# Altium footprint library PCB_XEM-S91.PcbLib: 7 footprints (part 2 of 3)
Each footprint in its own frame and in the unit in brackets; x right, y up, seen from the top. Pads: shape width x height; smd on the part's side, far side on the other; paste and mask are expansions set on the pad; w line width, h text height; cw(c..) or ccw(c..) is an arc to the next point about the centre after c.
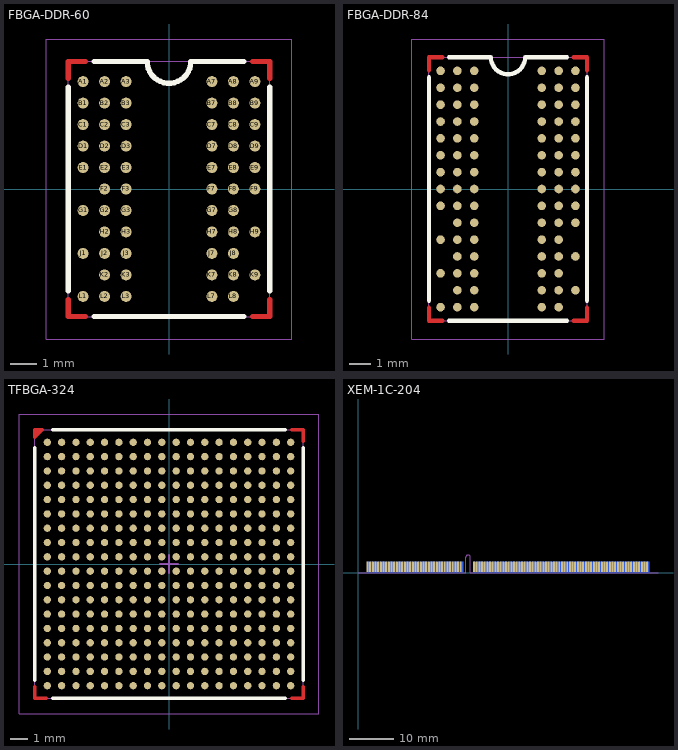
[diagram p1: the footprints below, top view; thin cyan lines are the x and y axes]

## FBGA-DDR-60 [mil]
pads (60):
  round 16 smd paste+0 mask+2: A1(-125.98,157.48) A2(-94.49,157.48) A3(-62.99,157.48) A7(62.99,157.48) A8(94.49,157.48) A9(125.98,157.48) B1(-125.98,125.98) B2(-94.49,125.98) B3(-62.99,125.98) B7(62.99,125.98) B8(94.49,125.98) B9(125.98,125.98) C1(-125.98,94.49) C2(-94.49,94.49) C3(-62.99,94.49) C7(62.99,94.49) C8(94.49,94.49) C9(125.98,94.49) D1(-125.98,62.99) D2(-94.49,62.99) D3(-62.99,62.99) D7(62.99,62.99) D8(94.49,62.99) D9(125.98,62.99) E1(-125.98,31.5) E2(-94.49,31.5) E3(-62.99,31.5) E7(62.99,31.5) E8(94.49,31.5) E9(125.98,31.5) F2(-94.49,0) F3(-62.99,0) F7(62.99,0) F8(94.49,0) F9(125.98,0) G1(-125.98,-31.5) G2(-94.49,-31.5) G3(-62.99,-31.5) G7(62.99,-31.5) G8(94.49,-31.5) H2(-94.49,-62.99) H3(-62.99,-62.99) H7(62.99,-62.99) H8(94.49,-62.99) H9(125.98,-62.99) J1(-125.98,-94.49) J2(-94.49,-94.49) J3(-62.99,-94.49) J7(62.99,-94.49) J8(94.49,-94.49) K2(-94.49,-125.98) K3(-62.99,-125.98) K7(62.99,-125.98) K8(94.49,-125.98) K9(125.98,-125.98) L1(-125.98,-157.48) L2(-94.49,-157.48) L3(-62.99,-157.48) L7(62.99,-157.48) L8(94.49,-157.48)
Top Layer:
  lines w8: -147.64,-162.36 -147.64,-187.01 -122.99,-187.01 ; -147.64,162.36 -147.64,187.01 -122.99,187.01 ; 122.99,-187.01 147.64,-187.01 147.64,-162.36 ; 122.99,187.01 147.64,187.01 147.64,162.36
Top Overlay:
  lines w8: -147.64,-149.37 -147.64,149.37 ; -110,-187.01 110,-187.01 ; -110,187.01 -32,187.01 ccw(c0,187.01) 32,187.01 110,187.01 ; 147.64,-149.37 147.64,149.37
Top Solder:
  lines w10: -147.64,-162.36 -147.64,-187.01 -122.99,-187.01 ; -147.64,162.36 -147.64,187.01 -122.99,187.01 ; 122.99,-187.01 147.64,-187.01 147.64,-162.36 ; 122.99,187.01 147.64,187.01 147.64,162.36
Mechanical 15:
  lines w1: -180,-220 180,-220 180,220 -180,220 -180,-220
Mechanical 16:
  lines w1: -147.64,-187.01 147.64,-187.01 147.64,187.01 -147.64,187.01 -147.64,-187.01
3D body: height 11.5, standoff -4.5, extent -133.92,149.56 -117.98,165.48
3D body: height 11.5, standoff -4.5, extent -102.42,149.56 -86.49,165.48
3D body: height 11.5, standoff -4.5, extent -70.92,149.56 -54.99,165.48
3D body: height 11.5, standoff -4.5, extent 55.06,149.56 70.99,165.48
3D body: height 11.5, standoff -4.5, extent 86.56,149.56 102.49,165.48
3D body: height 11.5, standoff -4.5, extent 118.05,149.56 133.98,165.48
3D body: height 11.5, standoff -4.5, extent 118.05,118.07 133.98,133.98
3D body: height 11.5, standoff -4.5, extent 86.56,118.07 102.49,133.98
3D body: height 11.5, standoff -4.5, extent 55.06,118.07 70.99,133.98
3D body: height 11.5, standoff -4.5, extent -70.92,118.07 -54.99,133.98
3D body: height 11.5, standoff -4.5, extent -102.42,118.07 -86.49,133.98
3D body: height 11.5, standoff -4.5, extent -133.92,118.07 -117.98,133.98
3D body: height 11.5, standoff -4.5, extent 118.05,86.57 133.98,102.49
3D body: height 11.5, standoff -4.5, extent 86.56,86.57 102.49,102.49
3D body: height 11.5, standoff -4.5, extent 55.06,86.57 70.99,102.49
3D body: height 11.5, standoff -4.5, extent -70.92,86.57 -54.99,102.49
3D body: height 11.5, standoff -4.5, extent -102.42,86.57 -86.49,102.49
3D body: height 11.5, standoff -4.5, extent -133.92,86.57 -117.98,102.49
3D body: height 11.5, standoff -4.5, extent 118.05,55.08 133.98,70.99
3D body: height 11.5, standoff -4.5, extent 86.56,55.08 102.49,70.99
3D body: height 11.5, standoff -4.5, extent 55.06,55.08 70.99,70.99
3D body: height 11.5, standoff -4.5, extent -70.92,55.08 -54.99,70.99
3D body: height 11.5, standoff -4.5, extent -102.42,55.08 -86.49,70.99
3D body: height 11.5, standoff -4.5, extent -133.92,55.08 -117.98,70.99
3D body: height 11.5, standoff -4.5, extent 118.05,23.58 133.98,39.5
3D body: height 11.5, standoff -4.5, extent 86.56,23.58 102.49,39.5
3D body: height 11.5, standoff -4.5, extent 55.06,23.58 70.99,39.5
3D body: height 11.5, standoff -4.5, extent -70.92,23.58 -54.99,39.5
3D body: height 11.5, standoff -4.5, extent -102.42,23.58 -86.49,39.5
3D body: height 11.5, standoff -4.5, extent -133.92,23.58 -117.98,39.5
3D body: height 11.5, standoff -4.5, extent 118.05,-7.92 133.98,8
3D body: height 11.5, standoff -4.5, extent 86.56,-7.92 102.49,8
3D body: height 11.5, standoff -4.5, extent 55.06,-7.92 70.99,8
3D body: height 11.5, standoff -4.5, extent -70.92,-7.92 -54.99,8
3D body: height 11.5, standoff -4.5, extent -102.42,-7.92 -86.49,8
3D body: height 11.5, standoff -4.5, extent 86.56,-39.41 102.49,-23.5
3D body: height 11.5, standoff -4.5, extent 55.06,-39.41 70.99,-23.5
3D body: height 11.5, standoff -4.5, extent -70.92,-39.41 -54.99,-23.5
3D body: height 11.5, standoff -4.5, extent -102.42,-39.41 -86.49,-23.5
3D body: height 11.5, standoff -4.5, extent -133.92,-39.41 -117.98,-23.5
3D body: height 11.5, standoff -4.5, extent 118.05,-70.91 133.98,-54.99
3D body: height 11.5, standoff -4.5, extent 86.56,-70.91 102.49,-54.99
3D body: height 11.5, standoff -4.5, extent 55.06,-70.91 70.99,-54.99
3D body: height 11.5, standoff -4.5, extent -70.92,-70.91 -54.99,-54.99
3D body: height 11.5, standoff -4.5, extent -102.42,-70.91 -86.49,-54.99
3D body: height 11.5, standoff -4.5, extent 86.56,-102.4 102.49,-86.49
3D body: height 11.5, standoff -4.5, extent 55.06,-102.4 70.99,-86.49
3D body: height 11.5, standoff -4.5, extent -70.92,-102.4 -54.99,-86.49
3D body: height 11.5, standoff -4.5, extent -102.42,-102.4 -86.49,-86.49
3D body: height 11.5, standoff -4.5, extent -133.92,-102.4 -117.98,-86.49
3D body: height 11.5, standoff -4.5, extent 86.56,-133.9 102.49,-117.98
3D body: height 11.5, standoff -4.5, extent 55.06,-133.9 70.99,-117.98
3D body: height 11.5, standoff -4.5, extent -70.92,-133.9 -54.99,-117.98
3D body: height 11.5, standoff -4.5, extent -102.42,-133.9 -86.49,-117.98
3D body: height 11.5, standoff -4.5, extent 86.56,-165.4 102.49,-149.48
3D body: height 11.5, standoff -4.5, extent 55.06,-165.4 70.99,-149.48
3D body: height 11.5, standoff -4.5, extent -70.92,-165.4 -54.99,-149.48
3D body: height 11.5, standoff -4.5, extent -102.42,-165.4 -86.49,-149.48
3D body: height 11.5, standoff -4.5, extent -133.92,-165.4 -117.98,-149.48
3D body: height 11.5, standoff -4.5, extent 118.05,-133.9 133.98,-117.98
3D body: height 39.37, standoff 7.87, extent -147.64,-187.01 147.64,187.01

## FBGA-DDR-84 [mil]
pads (84):
  round 16 smd paste+0 mask+2: A1(-125.98,220.47) A2(-94.49,220.47) A3(-62.99,220.47) A7(62.99,220.47) A8(94.49,220.47) A9(125.98,220.47) B1(-125.98,188.98) B2(-94.49,188.98) B3(-62.99,188.98) B7(62.99,188.98) B8(94.49,188.98) B9(125.98,188.98) C1(-125.98,157.48) C2(-94.49,157.48) C3(-62.99,157.48) C7(62.99,157.48) C8(94.49,157.48) C9(125.98,157.48) D1(-125.98,125.98) D2(-94.49,125.98) D3(-62.99,125.98) D7(62.99,125.98) D8(94.49,125.98) D9(125.98,125.98) E1(-125.98,94.49) E2(-94.49,94.49) E3(-62.99,94.49) E7(62.99,94.49) E8(94.49,94.49) E9(125.98,94.49) F1(-125.98,62.99) F2(-94.49,62.99) F3(-62.99,62.99) F7(62.99,62.99) F8(94.49,62.99) F9(125.98,62.99) G1(-125.98,31.5) G2(-94.49,31.5) G3(-62.99,31.5) G7(62.99,31.5) G8(94.49,31.5) G9(125.98,31.5) H1(-125.98,0) H2(-94.49,0) H3(-62.99,0) H7(62.99,0) H8(94.49,0) H9(125.98,0) J1(-125.98,-31.5) J2(-94.49,-31.5) J3(-62.99,-31.5) J7(62.99,-31.5) J8(94.49,-31.5) J9(125.98,-31.5) K2(-94.49,-62.99) K3(-62.99,-62.99) K7(62.99,-62.99) K8(94.49,-62.99) K9(125.98,-62.99) L1(-125.98,-94.49) L2(-94.49,-94.49) L3(-62.99,-94.49) L7(62.99,-94.49) L8(94.49,-94.49) M2(-94.49,-125.98) M3(-62.99,-125.98) M7(62.99,-125.98) M8(94.49,-125.98) M9(125.98,-125.98) N1(-125.98,-157.48) N2(-94.49,-157.48) N3(-62.99,-157.48) N7(62.99,-157.48) N8(94.49,-157.48) P2(-94.49,-188.98) P3(-62.99,-188.98) P7(62.99,-188.98) P8(94.49,-188.98) P9(125.98,-188.98) R1(-125.98,-220.47) R2(-94.49,-220.47) R3(-62.99,-220.47) R7(62.99,-220.47) R8(94.49,-220.47)
Top Layer:
  lines w8: -147.64,-221.42 -147.64,-246.06 -122.99,-246.06 ; -147.64,221.42 -147.64,246.06 -122.99,246.06 ; 122.99,-246.06 147.64,-246.06 147.64,-221.42 ; 122.99,246.06 147.64,246.06 147.64,221.42
Top Overlay:
  lines w8: -147.64,-208.43 -147.64,208.43 ; -110,-246.06 110,-246.06 ; -110,246.06 -32,246.06 ccw(c0,246.06) 32,246.06 110,246.06 ; 147.64,-208.43 147.64,208.43
Top Solder:
  lines w10: -147.64,-221.42 -147.64,-246.06 -122.99,-246.06 ; -147.64,221.42 -147.64,246.06 -122.99,246.06 ; 122.99,-246.06 147.64,-246.06 147.64,-221.42 ; 122.99,246.06 147.64,246.06 147.64,221.42
Mechanical 15:
  lines w1: -180,-280 180,-280 180,280 -180,280 -180,-280
Mechanical 16:
  lines w1: -147.64,-246.06 -147.64,246.06 147.64,246.06 147.64,-246.06 -147.64,-246.06
3D body: height 11.5, standoff -4.5, extent -133.92,-228.39 -117.98,-212.47
3D body: height 11.5, standoff -4.5, extent -102.42,-228.39 -86.49,-212.47
3D body: height 11.5, standoff -4.5, extent -70.92,-228.39 -54.99,-212.47
3D body: height 11.5, standoff -4.5, extent 55.06,-228.39 70.99,-212.47
3D body: height 11.5, standoff -4.5, extent 86.56,-228.39 102.49,-212.47
3D body: height 11.5, standoff -4.5, extent -102.42,-196.89 -86.49,-180.98
3D body: height 11.5, standoff -4.5, extent -70.92,-196.89 -54.99,-180.98
3D body: height 11.5, standoff -4.5, extent 55.06,-196.89 70.99,-180.98
3D body: height 11.5, standoff -4.5, extent 86.56,-196.89 102.49,-180.98
3D body: height 11.5, standoff -4.5, extent 118.05,-196.89 133.98,-180.98
3D body: height 11.5, standoff -4.5, extent -133.92,-165.4 -117.98,-149.48
3D body: height 11.5, standoff -4.5, extent -102.42,-165.4 -86.49,-149.48
3D body: height 11.5, standoff -4.5, extent -70.92,-165.4 -54.99,-149.48
3D body: height 11.5, standoff -4.5, extent 55.06,-165.4 70.99,-149.48
3D body: height 11.5, standoff -4.5, extent 86.56,-165.4 102.49,-149.48
3D body: height 11.5, standoff -4.5, extent -102.42,-133.9 -86.49,-117.98
3D body: height 11.5, standoff -4.5, extent -70.92,-133.9 -54.99,-117.98
3D body: height 11.5, standoff -4.5, extent 55.06,-133.9 70.99,-117.98
3D body: height 11.5, standoff -4.5, extent 86.56,-133.9 102.49,-117.98
3D body: height 11.5, standoff -4.5, extent 118.05,-133.9 133.98,-117.98
3D body: height 11.5, standoff -4.5, extent -133.92,-102.4 -117.98,-86.49
3D body: height 11.5, standoff -4.5, extent -102.42,-102.4 -86.49,-86.49
3D body: height 11.5, standoff -4.5, extent -70.92,-102.4 -54.99,-86.49
3D body: height 11.5, standoff -4.5, extent 55.06,-102.4 70.99,-86.49
3D body: height 11.5, standoff -4.5, extent 86.56,-102.4 102.49,-86.49
3D body: height 11.5, standoff -4.5, extent -102.42,-70.91 -86.49,-54.99
3D body: height 11.5, standoff -4.5, extent -70.92,-70.91 -54.99,-54.99
3D body: height 11.5, standoff -4.5, extent 55.06,-70.91 70.99,-54.99
3D body: height 11.5, standoff -4.5, extent 86.56,-70.91 102.49,-54.99
3D body: height 11.5, standoff -4.5, extent 118.05,-70.91 133.98,-54.99
3D body: height 11.5, standoff -4.5, extent -133.92,-39.41 -117.98,-23.5
3D body: height 11.5, standoff -4.5, extent -102.42,-39.41 -86.49,-23.5
3D body: height 11.5, standoff -4.5, extent -70.92,-39.41 -54.99,-23.5
3D body: height 11.5, standoff -4.5, extent 55.06,-39.41 70.99,-23.5
3D body: height 11.5, standoff -4.5, extent 86.56,-39.41 102.49,-23.5
3D body: height 11.5, standoff -4.5, extent 118.05,-39.41 133.98,-23.5
3D body: height 11.5, standoff -4.5, extent -133.92,-7.92 -117.98,8
3D body: height 11.5, standoff -4.5, extent -102.42,-7.92 -86.49,8
3D body: height 11.5, standoff -4.5, extent -70.92,-7.92 -54.99,8
3D body: height 11.5, standoff -4.5, extent 55.06,-7.92 70.99,8
3D body: height 11.5, standoff -4.5, extent 86.56,-7.92 102.49,8
3D body: height 11.5, standoff -4.5, extent 118.05,-7.92 133.98,8
3D body: height 11.5, standoff -4.5, extent -133.92,23.58 -117.98,39.5
3D body: height 11.5, standoff -4.5, extent -102.42,23.58 -86.49,39.5
3D body: height 11.5, standoff -4.5, extent -70.92,23.58 -54.99,39.5
3D body: height 11.5, standoff -4.5, extent 55.06,23.58 70.99,39.5
3D body: height 11.5, standoff -4.5, extent 86.56,23.58 102.49,39.5
3D body: height 11.5, standoff -4.5, extent 118.05,23.58 133.98,39.5
3D body: height 11.5, standoff -4.5, extent -133.92,55.08 -117.98,70.99
3D body: height 11.5, standoff -4.5, extent -102.42,55.08 -86.49,70.99
3D body: height 11.5, standoff -4.5, extent -70.92,55.08 -54.99,70.99
3D body: height 11.5, standoff -4.5, extent 55.06,55.08 70.99,70.99
3D body: height 11.5, standoff -4.5, extent 86.56,55.08 102.49,70.99
3D body: height 11.5, standoff -4.5, extent 118.05,55.08 133.98,70.99
3D body: height 11.5, standoff -4.5, extent -133.92,86.57 -117.98,102.49
3D body: height 11.5, standoff -4.5, extent -102.42,86.57 -86.49,102.49
3D body: height 11.5, standoff -4.5, extent -70.92,86.57 -54.99,102.49
3D body: height 11.5, standoff -4.5, extent 55.06,86.57 70.99,102.49
3D body: height 11.5, standoff -4.5, extent 86.56,86.57 102.49,102.49
3D body: height 11.5, standoff -4.5, extent 118.05,86.57 133.98,102.49
3D body: height 11.5, standoff -4.5, extent -133.92,118.07 -117.98,133.98
3D body: height 11.5, standoff -4.5, extent -102.42,118.07 -86.49,133.98
3D body: height 11.5, standoff -4.5, extent -70.92,118.07 -54.99,133.98
3D body: height 11.5, standoff -4.5, extent 55.06,118.07 70.99,133.98
3D body: height 11.5, standoff -4.5, extent 86.56,118.07 102.49,133.98
3D body: height 11.5, standoff -4.5, extent 118.05,118.07 133.98,133.98
3D body: height 11.5, standoff -4.5, extent -133.92,149.56 -117.98,165.48
3D body: height 11.5, standoff -4.5, extent -102.42,149.56 -86.49,165.48
3D body: height 11.5, standoff -4.5, extent -70.92,149.56 -54.99,165.48
3D body: height 11.5, standoff -4.5, extent 55.06,149.56 70.99,165.48
3D body: height 11.5, standoff -4.5, extent 86.56,149.56 102.49,165.48
3D body: height 11.5, standoff -4.5, extent 118.05,149.56 133.98,165.48
3D body: height 11.5, standoff -4.5, extent -133.92,181.06 -117.98,196.98
3D body: height 11.5, standoff -4.5, extent -102.42,181.06 -86.49,196.98
3D body: height 11.5, standoff -4.5, extent -70.92,181.06 -54.99,196.98
3D body: height 11.5, standoff -4.5, extent 55.06,181.06 70.99,196.98
3D body: height 11.5, standoff -4.5, extent 86.56,181.06 102.49,196.98
3D body: height 11.5, standoff -4.5, extent 118.05,181.06 133.98,196.98
3D body: height 11.5, standoff -4.5, extent 118.05,212.56 133.98,228.47
3D body: height 11.5, standoff -4.5, extent 86.56,212.56 102.49,228.47
3D body: height 11.5, standoff -4.5, extent 55.06,212.56 70.99,228.47
3D body: height 11.5, standoff -4.5, extent -70.92,212.56 -54.99,228.47
3D body: height 11.5, standoff -4.5, extent -102.42,212.56 -86.49,228.47
3D body: height 11.5, standoff -4.5, extent -133.92,212.56 -117.98,228.47
3D body: height 39.37, standoff 7.87, extent -147.64,-246.06 147.64,246.06

## TFBGA-324 [mm]
pads (324):
  round 0.406 smd paste+0 mask+0.051: A1(-6.8,6.8) A2(-6,6.8) A3(-5.2,6.8) A4(-4.4,6.8) A5(-3.6,6.8) A6(-2.8,6.8) A7(-2,6.8) A8(-1.2,6.8) A9(-0.4,6.8) A10(0.4,6.8) A11(1.2,6.8) A12(2,6.8) A13(2.8,6.8) A14(3.6,6.8) A15(4.4,6.8) A16(5.2,6.8) A17(6,6.8) A18(6.8,6.8) B1(-6.8,6) B2(-6,6) B3(-5.2,6) B4(-4.4,6) B5(-3.6,6) B6(-2.8,6) B7(-2,6) B8(-1.2,6) B9(-0.4,6) B10(0.4,6) B11(1.2,6) B12(2,6) B13(2.8,6) B14(3.6,6) B15(4.4,6) B16(5.2,6) B17(6,6) B18(6.8,6) C1(-6.8,5.2) C2(-6,5.2) C3(-5.2,5.2) C4(-4.4,5.2) C5(-3.6,5.2) C6(-2.8,5.2) C7(-2,5.2) C8(-1.2,5.2) C9(-0.4,5.2) C10(0.4,5.2) C11(1.2,5.2) C12(2,5.2) C13(2.8,5.2) C14(3.6,5.2) C15(4.4,5.2) C16(5.2,5.2) C17(6,5.2) C18(6.8,5.2) D1(-6.8,4.4) D2(-6,4.4) D3(-5.2,4.4) D4(-4.4,4.4) D5(-3.6,4.4) D6(-2.8,4.4) D7(-2,4.4) D8(-1.2,4.4) D9(-0.4,4.4) D10(0.4,4.4) D11(1.2,4.4) D12(2,4.4) D13(2.8,4.4) D14(3.6,4.4) D15(4.4,4.4) D16(5.2,4.4) D17(6,4.4) D18(6.8,4.4) E1(-6.8,3.6) E2(-6,3.6) E3(-5.2,3.6) E4(-4.4,3.6) E5(-3.6,3.6) E6(-2.8,3.6) E7(-2,3.6) E8(-1.2,3.6) E9(-0.4,3.6) E10(0.4,3.6) E11(1.2,3.6) E12(2,3.6) E13(2.8,3.6) E14(3.6,3.6) E15(4.4,3.6) E16(5.2,3.6) E17(6,3.6) E18(6.8,3.6) F1(-6.8,2.8) F2(-6,2.8) F3(-5.2,2.8) F4(-4.4,2.8) F5(-3.6,2.8) F6(-2.8,2.8) F7(-2,2.8) F8(-1.2,2.8) F9(-0.4,2.8) F10(0.4,2.8) F11(1.2,2.8) F12(2,2.8) F13(2.8,2.8) F14(3.6,2.8) F15(4.4,2.8) F16(5.2,2.8) F17(6,2.8) F18(6.8,2.8) G1(-6.8,2) G2(-6,2) G3(-5.2,2) G4(-4.4,2) G5(-3.6,2) G6(-2.8,2) G7(-2,2) G8(-1.2,2) G9(-0.4,2) G10(0.4,2) G11(1.2,2) G12(2,2) G13(2.8,2) G14(3.6,2) G15(4.4,2) G16(5.2,2) G17(6,2) G18(6.8,2) H1(-6.8,1.2) H2(-6,1.2) H3(-5.2,1.2) H4(-4.4,1.2) H5(-3.6,1.2) H6(-2.8,1.2) H7(-2,1.2) H8(-1.2,1.2) H9(-0.4,1.2) H10(0.4,1.2) H11(1.2,1.2) H12(2,1.2) H13(2.8,1.2) H14(3.6,1.2) H15(4.4,1.2) H16(5.2,1.2) H17(6,1.2) H18(6.8,1.2) J1(-6.8,0.4) J2(-6,0.4) J3(-5.2,0.4) J4(-4.4,0.4) J5(-3.6,0.4) J6(-2.8,0.4) J7(-2,0.4) J8(-1.2,0.4) J9(-0.4,0.4) J10(0.4,0.4) J11(1.2,0.4) J12(2,0.4) J13(2.8,0.4) J14(3.6,0.4) J15(4.4,0.4) J16(5.2,0.4) J17(6,0.4) J18(6.8,0.4) K1(-6.8,-0.4) K2(-6,-0.4) K3(-5.2,-0.4) K4(-4.4,-0.4) K5(-3.6,-0.4) K6(-2.8,-0.4) K7(-2,-0.4) K8(-1.2,-0.4) K9(-0.4,-0.4) K10(0.4,-0.4) K11(1.2,-0.4) K12(2,-0.4) K13(2.8,-0.4) K14(3.6,-0.4) K15(4.4,-0.4) K16(5.2,-0.4) K17(6,-0.4) K18(6.8,-0.4) L1(-6.8,-1.2) L2(-6,-1.2) L3(-5.2,-1.2) L4(-4.4,-1.2) L5(-3.6,-1.2) L6(-2.8,-1.2) L7(-2,-1.2) L8(-1.2,-1.2) L9(-0.4,-1.2) L10(0.4,-1.2) L11(1.2,-1.2) L12(2,-1.2) L13(2.8,-1.2) L14(3.6,-1.2) L15(4.4,-1.2) L16(5.2,-1.2) L17(6,-1.2) L18(6.8,-1.2) M1(-6.8,-2) M2(-6,-2) M3(-5.2,-2) M4(-4.4,-2) M5(-3.6,-2) M6(-2.8,-2) M7(-2,-2) M8(-1.2,-2) M9(-0.4,-2) M10(0.4,-2) M11(1.2,-2) M12(2,-2) M13(2.8,-2) M14(3.6,-2) M15(4.4,-2) M16(5.2,-2) M17(6,-2) M18(6.8,-2) N1(-6.8,-2.8) N2(-6,-2.8) N3(-5.2,-2.8) N4(-4.4,-2.8) N5(-3.6,-2.8) N6(-2.8,-2.8) N7(-2,-2.8) N8(-1.2,-2.8) N9(-0.4,-2.8) N10(0.4,-2.8) N11(1.2,-2.8) N12(2,-2.8) N13(2.8,-2.8) N14(3.6,-2.8) N15(4.4,-2.8) N16(5.2,-2.8) N17(6,-2.8) N18(6.8,-2.8) P1(-6.8,-3.6) P2(-6,-3.6) P3(-5.2,-3.6) P4(-4.4,-3.6) P5(-3.6,-3.6) P6(-2.8,-3.6) P7(-2,-3.6) P8(-1.2,-3.6) P9(-0.4,-3.6) P10(0.4,-3.6) P11(1.2,-3.6) P12(2,-3.6) P13(2.8,-3.6) P14(3.6,-3.6) P15(4.4,-3.6) P16(5.2,-3.6) P17(6,-3.6) P18(6.8,-3.6) R1(-6.8,-4.4) R2(-6,-4.4) R3(-5.2,-4.4) R4(-4.4,-4.4) R5(-3.6,-4.4) R6(-2.8,-4.4) R7(-2,-4.4) R8(-1.2,-4.4) R9(-0.4,-4.4) R10(0.4,-4.4) R11(1.2,-4.4) R12(2,-4.4) R13(2.8,-4.4) R14(3.6,-4.4) R15(4.4,-4.4) R16(5.2,-4.4) R17(6,-4.4) R18(6.8,-4.4) T1(-6.8,-5.2) T2(-6,-5.2) T3(-5.2,-5.2) T4(-4.4,-5.2) T5(-3.6,-5.2) T6(-2.8,-5.2) T7(-2,-5.2) T8(-1.2,-5.2) T9(-0.4,-5.2) T10(0.4,-5.2) T11(1.2,-5.2) T12(2,-5.2) T13(2.8,-5.2) T14(3.6,-5.2) T15(4.4,-5.2) T16(5.2,-5.2) T17(6,-5.2) T18(6.8,-5.2) U1(-6.8,-6) U2(-6,-6) U3(-5.2,-6) U4(-4.4,-6) U5(-3.6,-6) U6(-2.8,-6) U7(-2,-6) U8(-1.2,-6) U9(-0.4,-6) U10(0.4,-6) U11(1.2,-6) U12(2,-6) U13(2.8,-6) U14(3.6,-6) U15(4.4,-6) U16(5.2,-6) U17(6,-6) U18(6.8,-6) V1(-6.8,-6.8) V2(-6,-6.8) V3(-5.2,-6.8) V4(-4.4,-6.8) V5(-3.6,-6.8) V6(-2.8,-6.8) V7(-2,-6.8) V8(-1.2,-6.8) V9(-0.4,-6.8) V10(0.4,-6.8) V11(1.2,-6.8) V12(2,-6.8) V13(2.8,-6.8) V14(3.6,-6.8) V15(4.4,-6.8) V16(5.2,-6.8) V17(6,-6.8) V18(6.8,-6.8)
Top Layer:
  region: -7.5,7.1 -7.5,7.5 -7.1,7.5
  lines w0.203: -7.5,-6.874 -7.5,-7.5 -6.874,-7.5 ; 6.874,-7.5 7.5,-7.5 7.5,-6.874 ; 6.874,7.5 7.5,7.5 7.5,6.874 ; -7.5,7.1 -7.5,7.5 -7.1,7.5 -7.5,7.1
Top Overlay:
  lines w0.203: -7.5,-6.5 -7.5,6.5 ; -6.5,-7.5 6.5,-7.5 ; -6.5,7.5 6.5,7.5 ; 7.5,-6.5 7.5,6.5
Top Solder:
  region: -7.5,7.1 -7.5,7.5 -7.1,7.5
  lines w0.254: -7.5,-6.874 -7.5,-7.5 -6.874,-7.5 ; 6.874,-7.5 7.5,-7.5 7.5,-6.874 ; 6.874,7.5 7.5,7.5 7.5,6.874 ; -7.5,7.1 -7.5,7.5 -7.1,7.5 -7.5,7.1
Mechanical 15:
  lines w0.025: -8.382,-8.382 -8.382,8.382 8.382,8.382 8.382,-8.382 -8.382,-8.382
  lines w0.1: -0.5,0 0.5,0 ; 0,-0.5 0,0.5
Mechanical 16:
  lines w0.025: -7.5,-7.5 7.5,-7.5 7.5,7.5 -7.5,7.5 -7.5,-7.5
3D body: height 1, standoff 0.2, extent -7.5,-7.5 7.5,7.5
3D body: height 0.29, standoff -0.11, extent -7.001,6.599 -6.597,7.003
3D body: height 0.29, standoff -0.11, extent -6.201,6.599 -5.797,7.003
3D body: height 0.29, standoff -0.11, extent -5.401,6.599 -4.997,7.003
3D body: height 0.29, standoff -0.11, extent -4.601,6.599 -4.197,7.003
3D body: height 0.29, standoff -0.11, extent -3.801,6.599 -3.397,7.003
3D body: height 0.29, standoff -0.11, extent -3.001,6.599 -2.597,7.003
3D body: height 0.29, standoff -0.11, extent -2.201,6.599 -1.797,7.003
3D body: height 0.29, standoff -0.11, extent -1.401,6.599 -0.997,7.003
3D body: height 0.29, standoff -0.11, extent -0.601,6.599 -0.197,7.003
3D body: height 0.29, standoff -0.11, extent 0.199,6.599 0.603,7.003
3D body: height 0.29, standoff -0.11, extent 0.999,6.599 1.403,7.003
3D body: height 0.29, standoff -0.11, extent 1.799,6.599 2.203,7.003
3D body: height 0.29, standoff -0.11, extent 2.599,6.599 3.003,7.003
3D body: height 0.29, standoff -0.11, extent 3.399,6.599 3.803,7.003
3D body: height 0.29, standoff -0.11, extent 4.199,6.599 4.603,7.003
3D body: height 0.29, standoff -0.11, extent 4.999,6.599 5.403,7.003
3D body: height 0.29, standoff -0.11, extent 5.799,6.599 6.203,7.003
3D body: height 0.29, standoff -0.11, extent 6.599,6.599 7.003,7.003
3D body: height 0.29, standoff -0.11, extent 6.599,5.799 7.003,6.203
3D body: height 0.29, standoff -0.11, extent 5.799,5.799 6.203,6.203
3D body: height 0.29, standoff -0.11, extent 4.999,5.799 5.403,6.203
3D body: height 0.29, standoff -0.11, extent 4.199,5.799 4.603,6.203
3D body: height 0.29, standoff -0.11, extent 3.399,5.799 3.803,6.203
3D body: height 0.29, standoff -0.11, extent 2.599,5.799 3.003,6.203
3D body: height 0.29, standoff -0.11, extent 1.799,5.799 2.203,6.203
3D body: height 0.29, standoff -0.11, extent 0.999,5.799 1.403,6.203
3D body: height 0.29, standoff -0.11, extent 0.199,5.799 0.603,6.203
3D body: height 0.29, standoff -0.11, extent -0.601,5.799 -0.197,6.203
3D body: height 0.29, standoff -0.11, extent -1.401,5.799 -0.997,6.203
3D body: height 0.29, standoff -0.11, extent -2.201,5.799 -1.797,6.203
3D body: height 0.29, standoff -0.11, extent -3.001,5.799 -2.597,6.203
3D body: height 0.29, standoff -0.11, extent -3.801,5.799 -3.397,6.203
3D body: height 0.29, standoff -0.11, extent -4.601,5.799 -4.197,6.203
3D body: height 0.29, standoff -0.11, extent -5.401,5.799 -4.997,6.203
3D body: height 0.29, standoff -0.11, extent -6.201,5.799 -5.797,6.203
3D body: height 0.29, standoff -0.11, extent -7.001,5.799 -6.597,6.203
3D body: height 0.29, standoff -0.11, extent 6.599,4.999 7.003,5.403
3D body: height 0.29, standoff -0.11, extent 5.799,4.999 6.203,5.403
3D body: height 0.29, standoff -0.11, extent 4.999,4.999 5.403,5.403
3D body: height 0.29, standoff -0.11, extent 4.199,4.999 4.603,5.403
3D body: height 0.29, standoff -0.11, extent 3.399,4.999 3.803,5.403
3D body: height 0.29, standoff -0.11, extent 2.599,4.999 3.003,5.403
3D body: height 0.29, standoff -0.11, extent 1.799,4.999 2.203,5.403
3D body: height 0.29, standoff -0.11, extent 0.999,4.999 1.403,5.403
3D body: height 0.29, standoff -0.11, extent 0.199,4.999 0.603,5.403
3D body: height 0.29, standoff -0.11, extent -0.601,4.999 -0.197,5.403
3D body: height 0.29, standoff -0.11, extent -1.401,4.999 -0.997,5.403
3D body: height 0.29, standoff -0.11, extent -2.201,4.999 -1.797,5.403
3D body: height 0.29, standoff -0.11, extent -3.001,4.999 -2.597,5.403
3D body: height 0.29, standoff -0.11, extent -3.801,4.999 -3.397,5.403
3D body: height 0.29, standoff -0.11, extent -4.601,4.999 -4.197,5.403
3D body: height 0.29, standoff -0.11, extent -5.401,4.999 -4.997,5.403
3D body: height 0.29, standoff -0.11, extent -6.201,4.999 -5.797,5.403
3D body: height 0.29, standoff -0.11, extent -7.001,4.999 -6.597,5.403
3D body: height 0.29, standoff -0.11, extent 6.599,4.199 7.003,4.603
3D body: height 0.29, standoff -0.11, extent 5.799,4.199 6.203,4.603
3D body: height 0.29, standoff -0.11, extent 4.999,4.199 5.403,4.603
3D body: height 0.29, standoff -0.11, extent 4.199,4.199 4.603,4.603
3D body: height 0.29, standoff -0.11, extent 3.399,4.199 3.803,4.603
3D body: height 0.29, standoff -0.11, extent 2.599,4.199 3.003,4.603
3D body: height 0.29, standoff -0.11, extent 1.799,4.199 2.203,4.603
3D body: height 0.29, standoff -0.11, extent 0.999,4.199 1.403,4.603
3D body: height 0.29, standoff -0.11, extent 0.199,4.199 0.603,4.603
3D body: height 0.29, standoff -0.11, extent -0.601,4.199 -0.197,4.603
3D body: height 0.29, standoff -0.11, extent -1.401,4.199 -0.997,4.603
3D body: height 0.29, standoff -0.11, extent -2.201,4.199 -1.797,4.603
3D body: height 0.29, standoff -0.11, extent -3.001,4.199 -2.597,4.603
3D body: height 0.29, standoff -0.11, extent -3.801,4.199 -3.397,4.603
3D body: height 0.29, standoff -0.11, extent -4.601,4.199 -4.197,4.603
3D body: height 0.29, standoff -0.11, extent -5.401,4.199 -4.997,4.603
3D body: height 0.29, standoff -0.11, extent -6.201,4.199 -5.797,4.603
3D body: height 0.29, standoff -0.11, extent -7.001,4.199 -6.597,4.603
3D body: height 0.29, standoff -0.11, extent 6.599,3.399 7.003,3.803
3D body: height 0.29, standoff -0.11, extent 5.799,3.399 6.203,3.803
3D body: height 0.29, standoff -0.11, extent 4.999,3.399 5.403,3.803
3D body: height 0.29, standoff -0.11, extent 4.199,3.399 4.603,3.803
3D body: height 0.29, standoff -0.11, extent 3.399,3.399 3.803,3.803
3D body: height 0.29, standoff -0.11, extent 2.599,3.399 3.003,3.803
3D body: height 0.29, standoff -0.11, extent 1.799,3.399 2.203,3.803
3D body: height 0.29, standoff -0.11, extent 0.999,3.399 1.403,3.803
3D body: height 0.29, standoff -0.11, extent 0.199,3.399 0.603,3.803
3D body: height 0.29, standoff -0.11, extent -0.601,3.399 -0.197,3.803
3D body: height 0.29, standoff -0.11, extent -1.401,3.399 -0.997,3.803
3D body: height 0.29, standoff -0.11, extent -2.201,3.399 -1.797,3.803
3D body: height 0.29, standoff -0.11, extent -3.001,3.399 -2.597,3.803
3D body: height 0.29, standoff -0.11, extent -3.801,3.399 -3.397,3.803
3D body: height 0.29, standoff -0.11, extent -4.601,3.399 -4.197,3.803
3D body: height 0.29, standoff -0.11, extent -5.401,3.399 -4.997,3.803
3D body: height 0.29, standoff -0.11, extent -6.201,3.399 -5.797,3.803
3D body: height 0.29, standoff -0.11, extent -7.001,3.399 -6.597,3.803
3D body: height 0.29, standoff -0.11, extent 6.599,2.599 7.003,3.003
3D body: height 0.29, standoff -0.11, extent 5.799,2.599 6.203,3.003
3D body: height 0.29, standoff -0.11, extent 4.999,2.599 5.403,3.003
3D body: height 0.29, standoff -0.11, extent 4.199,2.599 4.603,3.003
3D body: height 0.29, standoff -0.11, extent 3.399,2.599 3.803,3.003
3D body: height 0.29, standoff -0.11, extent 2.599,2.599 3.003,3.003
3D body: height 0.29, standoff -0.11, extent 1.799,2.599 2.203,3.003
3D body: height 0.29, standoff -0.11, extent 0.999,2.599 1.403,3.003
3D body: height 0.29, standoff -0.11, extent 0.199,2.599 0.603,3.003
3D body: height 0.29, standoff -0.11, extent -0.601,2.599 -0.197,3.003
3D body: height 0.29, standoff -0.11, extent -1.401,2.599 -0.997,3.003
3D body: height 0.29, standoff -0.11, extent -2.201,2.599 -1.797,3.003
3D body: height 0.29, standoff -0.11, extent -3.001,2.599 -2.597,3.003
3D body: height 0.29, standoff -0.11, extent -3.801,2.599 -3.397,3.003
3D body: height 0.29, standoff -0.11, extent -4.601,2.599 -4.197,3.003
3D body: height 0.29, standoff -0.11, extent -5.401,2.599 -4.997,3.003
3D body: height 0.29, standoff -0.11, extent -6.201,2.599 -5.797,3.003
3D body: height 0.29, standoff -0.11, extent -7.001,2.599 -6.597,3.003
3D body: height 0.29, standoff -0.11, extent 6.599,1.799 7.003,2.203
3D body: height 0.29, standoff -0.11, extent 5.799,1.799 6.203,2.203
3D body: height 0.29, standoff -0.11, extent 4.999,1.799 5.403,2.203
3D body: height 0.29, standoff -0.11, extent 4.199,1.799 4.603,2.203
3D body: height 0.29, standoff -0.11, extent 3.399,1.799 3.803,2.203
3D body: height 0.29, standoff -0.11, extent 2.599,1.799 3.003,2.203
3D body: height 0.29, standoff -0.11, extent 1.799,1.799 2.203,2.203
3D body: height 0.29, standoff -0.11, extent 0.999,1.799 1.403,2.203
3D body: height 0.29, standoff -0.11, extent 0.199,1.799 0.603,2.203
3D body: height 0.29, standoff -0.11, extent -0.601,1.799 -0.197,2.203
3D body: height 0.29, standoff -0.11, extent -1.401,1.799 -0.997,2.203
3D body: height 0.29, standoff -0.11, extent -2.201,1.799 -1.797,2.203
3D body: height 0.29, standoff -0.11, extent -3.001,1.799 -2.597,2.203
3D body: height 0.29, standoff -0.11, extent -3.801,1.799 -3.397,2.203
3D body: height 0.29, standoff -0.11, extent -4.601,1.799 -4.197,2.203
3D body: height 0.29, standoff -0.11, extent -5.401,1.799 -4.997,2.203
3D body: height 0.29, standoff -0.11, extent -6.201,1.799 -5.797,2.203
3D body: height 0.29, standoff -0.11, extent -7.001,1.799 -6.597,2.203
3D body: height 0.29, standoff -0.11, extent 6.599,0.999 7.003,1.403
3D body: height 0.29, standoff -0.11, extent 5.799,0.999 6.203,1.403
3D body: height 0.29, standoff -0.11, extent 4.999,0.999 5.403,1.403
3D body: height 0.29, standoff -0.11, extent 4.199,0.999 4.603,1.403
3D body: height 0.29, standoff -0.11, extent 3.399,0.999 3.803,1.403
3D body: height 0.29, standoff -0.11, extent 2.599,0.999 3.003,1.403
3D body: height 0.29, standoff -0.11, extent 1.799,0.999 2.203,1.403
3D body: height 0.29, standoff -0.11, extent 0.999,0.999 1.403,1.403
3D body: height 0.29, standoff -0.11, extent 0.199,0.999 0.603,1.403
3D body: height 0.29, standoff -0.11, extent -0.601,0.999 -0.197,1.403
3D body: height 0.29, standoff -0.11, extent -1.401,0.999 -0.997,1.403
3D body: height 0.29, standoff -0.11, extent -2.201,0.999 -1.797,1.403
3D body: height 0.29, standoff -0.11, extent -3.001,0.999 -2.597,1.403
3D body: height 0.29, standoff -0.11, extent -3.801,0.999 -3.397,1.403
3D body: height 0.29, standoff -0.11, extent -4.601,0.999 -4.197,1.403
3D body: height 0.29, standoff -0.11, extent -5.401,0.999 -4.997,1.403
3D body: height 0.29, standoff -0.11, extent -6.201,0.999 -5.797,1.403
3D body: height 0.29, standoff -0.11, extent -7.001,0.999 -6.597,1.403
3D body: height 0.29, standoff -0.11, extent 6.599,0.199 7.003,0.603
3D body: height 0.29, standoff -0.11, extent 5.799,0.199 6.203,0.603
3D body: height 0.29, standoff -0.11, extent 4.999,0.199 5.403,0.603
3D body: height 0.29, standoff -0.11, extent 4.199,0.199 4.603,0.603
3D body: height 0.29, standoff -0.11, extent 3.399,0.199 3.803,0.603
3D body: height 0.29, standoff -0.11, extent 2.599,0.199 3.003,0.603
3D body: height 0.29, standoff -0.11, extent 1.799,0.199 2.203,0.603
3D body: height 0.29, standoff -0.11, extent 0.999,0.199 1.403,0.603
3D body: height 0.29, standoff -0.11, extent 0.199,0.199 0.603,0.603
3D body: height 0.29, standoff -0.11, extent -0.601,0.199 -0.197,0.603
3D body: height 0.29, standoff -0.11, extent -1.401,0.199 -0.997,0.603
3D body: height 0.29, standoff -0.11, extent -2.201,0.199 -1.797,0.603
3D body: height 0.29, standoff -0.11, extent -3.001,0.199 -2.597,0.603
3D body: height 0.29, standoff -0.11, extent -3.801,0.199 -3.397,0.603
3D body: height 0.29, standoff -0.11, extent -4.601,0.199 -4.197,0.603
3D body: height 0.29, standoff -0.11, extent -5.401,0.199 -4.997,0.603
3D body: height 0.29, standoff -0.11, extent -6.201,0.199 -5.797,0.603
3D body: height 0.29, standoff -0.11, extent -7.001,0.199 -6.597,0.603
3D body: height 0.29, standoff -0.11, extent 6.599,-0.601 7.003,-0.197
3D body: height 0.29, standoff -0.11, extent 5.799,-0.601 6.203,-0.197
3D body: height 0.29, standoff -0.11, extent 4.999,-0.601 5.403,-0.197
3D body: height 0.29, standoff -0.11, extent 4.199,-0.601 4.603,-0.197
3D body: height 0.29, standoff -0.11, extent 3.399,-0.601 3.803,-0.197
3D body: height 0.29, standoff -0.11, extent 2.599,-0.601 3.003,-0.197
3D body: height 0.29, standoff -0.11, extent 1.799,-0.601 2.203,-0.197
3D body: height 0.29, standoff -0.11, extent 0.999,-0.601 1.403,-0.197
3D body: height 0.29, standoff -0.11, extent 0.199,-0.601 0.603,-0.197
3D body: height 0.29, standoff -0.11, extent -0.601,-0.601 -0.197,-0.197
3D body: height 0.29, standoff -0.11, extent -1.401,-0.601 -0.997,-0.197
3D body: height 0.29, standoff -0.11, extent -2.201,-0.601 -1.797,-0.197
3D body: height 0.29, standoff -0.11, extent -3.001,-0.601 -2.597,-0.197
3D body: height 0.29, standoff -0.11, extent -3.801,-0.601 -3.397,-0.197
3D body: height 0.29, standoff -0.11, extent -4.601,-0.601 -4.197,-0.197
3D body: height 0.29, standoff -0.11, extent -5.401,-0.601 -4.997,-0.197
3D body: height 0.29, standoff -0.11, extent -6.201,-0.601 -5.797,-0.197
3D body: height 0.29, standoff -0.11, extent -7.001,-0.601 -6.597,-0.197
3D body: height 0.29, standoff -0.11, extent 6.599,-1.401 7.003,-0.997
3D body: height 0.29, standoff -0.11, extent 5.799,-1.401 6.203,-0.997
3D body: height 0.29, standoff -0.11, extent 4.999,-1.401 5.403,-0.997
3D body: height 0.29, standoff -0.11, extent 4.199,-1.401 4.603,-0.997
3D body: height 0.29, standoff -0.11, extent 3.399,-1.401 3.803,-0.997
3D body: height 0.29, standoff -0.11, extent 2.599,-1.401 3.003,-0.997
3D body: height 0.29, standoff -0.11, extent 1.799,-1.401 2.203,-0.997
3D body: height 0.29, standoff -0.11, extent 0.999,-1.401 1.403,-0.997
3D body: height 0.29, standoff -0.11, extent 0.199,-1.401 0.603,-0.997
3D body: height 0.29, standoff -0.11, extent -0.601,-1.401 -0.197,-0.997
3D body: height 0.29, standoff -0.11, extent -1.401,-1.401 -0.997,-0.997
3D body: height 0.29, standoff -0.11, extent -2.201,-1.401 -1.797,-0.997
3D body: height 0.29, standoff -0.11, extent -3.001,-1.401 -2.597,-0.997
3D body: height 0.29, standoff -0.11, extent -3.801,-1.401 -3.397,-0.997
3D body: height 0.29, standoff -0.11, extent -4.601,-1.401 -4.197,-0.997
3D body: height 0.29, standoff -0.11, extent -5.401,-1.401 -4.997,-0.997
3D body: height 0.29, standoff -0.11, extent -6.201,-1.401 -5.797,-0.997
3D body: height 0.29, standoff -0.11, extent -7.001,-1.401 -6.597,-0.997
3D body: height 0.29, standoff -0.11, extent 6.599,-2.201 7.003,-1.797
3D body: height 0.29, standoff -0.11, extent 5.799,-2.201 6.203,-1.797
3D body: height 0.29, standoff -0.11, extent 4.999,-2.201 5.403,-1.797
3D body: height 0.29, standoff -0.11, extent 4.199,-2.201 4.603,-1.797
3D body: height 0.29, standoff -0.11, extent 3.399,-2.201 3.803,-1.797
3D body: height 0.29, standoff -0.11, extent 2.599,-2.201 3.003,-1.797
3D body: height 0.29, standoff -0.11, extent 1.799,-2.201 2.203,-1.797
3D body: height 0.29, standoff -0.11, extent 0.999,-2.201 1.403,-1.797
3D body: height 0.29, standoff -0.11, extent 0.199,-2.201 0.603,-1.797
3D body: height 0.29, standoff -0.11, extent -0.601,-2.201 -0.197,-1.797
3D body: height 0.29, standoff -0.11, extent -1.401,-2.201 -0.997,-1.797
3D body: height 0.29, standoff -0.11, extent -2.201,-2.201 -1.797,-1.797
3D body: height 0.29, standoff -0.11, extent -3.001,-2.201 -2.597,-1.797
3D body: height 0.29, standoff -0.11, extent -3.801,-2.201 -3.397,-1.797
3D body: height 0.29, standoff -0.11, extent -4.601,-2.201 -4.197,-1.797
3D body: height 0.29, standoff -0.11, extent -5.401,-2.201 -4.997,-1.797
3D body: height 0.29, standoff -0.11, extent -6.201,-2.201 -5.797,-1.797
3D body: height 0.29, standoff -0.11, extent -7.001,-2.201 -6.597,-1.797
3D body: height 0.29, standoff -0.11, extent 6.599,-3.001 7.003,-2.597
3D body: height 0.29, standoff -0.11, extent 5.799,-3.001 6.203,-2.597
3D body: height 0.29, standoff -0.11, extent 4.999,-3.001 5.403,-2.597
3D body: height 0.29, standoff -0.11, extent 4.199,-3.001 4.603,-2.597
3D body: height 0.29, standoff -0.11, extent 3.399,-3.001 3.803,-2.597
3D body: height 0.29, standoff -0.11, extent 2.599,-3.001 3.003,-2.597
3D body: height 0.29, standoff -0.11, extent 1.799,-3.001 2.203,-2.597
3D body: height 0.29, standoff -0.11, extent 0.999,-3.001 1.403,-2.597
3D body: height 0.29, standoff -0.11, extent 0.199,-3.001 0.603,-2.597
3D body: height 0.29, standoff -0.11, extent -0.601,-3.001 -0.197,-2.597
3D body: height 0.29, standoff -0.11, extent -1.401,-3.001 -0.997,-2.597
3D body: height 0.29, standoff -0.11, extent -2.201,-3.001 -1.797,-2.597
3D body: height 0.29, standoff -0.11, extent -3.001,-3.001 -2.597,-2.597
3D body: height 0.29, standoff -0.11, extent -3.801,-3.001 -3.397,-2.597
3D body: height 0.29, standoff -0.11, extent -4.601,-3.001 -4.197,-2.597
3D body: height 0.29, standoff -0.11, extent -5.401,-3.001 -4.997,-2.597
3D body: height 0.29, standoff -0.11, extent -6.201,-3.001 -5.797,-2.597
3D body: height 0.29, standoff -0.11, extent -7.001,-3.001 -6.597,-2.597
3D body: height 0.29, standoff -0.11, extent 6.599,-3.801 7.003,-3.397
3D body: height 0.29, standoff -0.11, extent 5.799,-3.801 6.203,-3.397
3D body: height 0.29, standoff -0.11, extent 4.999,-3.801 5.403,-3.397
3D body: height 0.29, standoff -0.11, extent 4.199,-3.801 4.603,-3.397
3D body: height 0.29, standoff -0.11, extent 3.399,-3.801 3.803,-3.397
3D body: height 0.29, standoff -0.11, extent 2.599,-3.801 3.003,-3.397
3D body: height 0.29, standoff -0.11, extent 1.799,-3.801 2.203,-3.397
3D body: height 0.29, standoff -0.11, extent 0.999,-3.801 1.403,-3.397
3D body: height 0.29, standoff -0.11, extent 0.199,-3.801 0.603,-3.397
3D body: height 0.29, standoff -0.11, extent -0.601,-3.801 -0.197,-3.397
3D body: height 0.29, standoff -0.11, extent -1.401,-3.801 -0.997,-3.397
3D body: height 0.29, standoff -0.11, extent -2.201,-3.801 -1.797,-3.397
3D body: height 0.29, standoff -0.11, extent -3.001,-3.801 -2.597,-3.397
3D body: height 0.29, standoff -0.11, extent -3.801,-3.801 -3.397,-3.397
3D body: height 0.29, standoff -0.11, extent -4.601,-3.801 -4.197,-3.397
3D body: height 0.29, standoff -0.11, extent -5.401,-3.801 -4.997,-3.397
3D body: height 0.29, standoff -0.11, extent -6.201,-3.801 -5.797,-3.397
3D body: height 0.29, standoff -0.11, extent -7.001,-3.801 -6.597,-3.397
3D body: height 0.29, standoff -0.11, extent 6.599,-4.601 7.003,-4.197
3D body: height 0.29, standoff -0.11, extent 5.799,-4.601 6.203,-4.197
3D body: height 0.29, standoff -0.11, extent 4.999,-4.601 5.403,-4.197
3D body: height 0.29, standoff -0.11, extent 4.199,-4.601 4.603,-4.197
3D body: height 0.29, standoff -0.11, extent 3.399,-4.601 3.803,-4.197
3D body: height 0.29, standoff -0.11, extent 2.599,-4.601 3.003,-4.197
3D body: height 0.29, standoff -0.11, extent 1.799,-4.601 2.203,-4.197
3D body: height 0.29, standoff -0.11, extent 0.999,-4.601 1.403,-4.197
3D body: height 0.29, standoff -0.11, extent 0.199,-4.601 0.603,-4.197
3D body: height 0.29, standoff -0.11, extent -0.601,-4.601 -0.197,-4.197
3D body: height 0.29, standoff -0.11, extent -1.401,-4.601 -0.997,-4.197
3D body: height 0.29, standoff -0.11, extent -2.201,-4.601 -1.797,-4.197
3D body: height 0.29, standoff -0.11, extent -3.001,-4.601 -2.597,-4.197
3D body: height 0.29, standoff -0.11, extent -3.801,-4.601 -3.397,-4.197
3D body: height 0.29, standoff -0.11, extent -4.601,-4.601 -4.197,-4.197
3D body: height 0.29, standoff -0.11, extent -5.401,-4.601 -4.997,-4.197
3D body: height 0.29, standoff -0.11, extent -6.201,-4.601 -5.797,-4.197
3D body: height 0.29, standoff -0.11, extent -7.001,-4.601 -6.597,-4.197
3D body: height 0.29, standoff -0.11, extent 6.599,-5.401 7.003,-4.997
3D body: height 0.29, standoff -0.11, extent 5.799,-5.401 6.203,-4.997
3D body: height 0.29, standoff -0.11, extent 4.999,-5.401 5.403,-4.997
3D body: height 0.29, standoff -0.11, extent 4.199,-5.401 4.603,-4.997
3D body: height 0.29, standoff -0.11, extent 3.399,-5.401 3.803,-4.997
3D body: height 0.29, standoff -0.11, extent 2.599,-5.401 3.003,-4.997
3D body: height 0.29, standoff -0.11, extent 1.799,-5.401 2.203,-4.997
3D body: height 0.29, standoff -0.11, extent 0.999,-5.401 1.403,-4.997
3D body: height 0.29, standoff -0.11, extent 0.199,-5.401 0.603,-4.997
3D body: height 0.29, standoff -0.11, extent -0.601,-5.401 -0.197,-4.997
3D body: height 0.29, standoff -0.11, extent -1.401,-5.401 -0.997,-4.997
3D body: height 0.29, standoff -0.11, extent -2.201,-5.401 -1.797,-4.997
3D body: height 0.29, standoff -0.11, extent -3.001,-5.401 -2.597,-4.997
3D body: height 0.29, standoff -0.11, extent -3.801,-5.401 -3.397,-4.997
3D body: height 0.29, standoff -0.11, extent -4.601,-5.401 -4.197,-4.997
3D body: height 0.29, standoff -0.11, extent -5.401,-5.401 -4.997,-4.997
3D body: height 0.29, standoff -0.11, extent -6.201,-5.401 -5.797,-4.997
3D body: height 0.29, standoff -0.11, extent -7.001,-5.401 -6.597,-4.997
3D body: height 0.29, standoff -0.11, extent 6.599,-6.201 7.003,-5.797
3D body: height 0.29, standoff -0.11, extent 5.799,-6.201 6.203,-5.797
3D body: height 0.29, standoff -0.11, extent 4.999,-6.201 5.403,-5.797
3D body: height 0.29, standoff -0.11, extent 4.199,-6.201 4.603,-5.797
3D body: height 0.29, standoff -0.11, extent 3.399,-6.201 3.803,-5.797
3D body: height 0.29, standoff -0.11, extent 2.599,-6.201 3.003,-5.797
3D body: height 0.29, standoff -0.11, extent 1.799,-6.201 2.203,-5.797
3D body: height 0.29, standoff -0.11, extent 0.999,-6.201 1.403,-5.797
3D body: height 0.29, standoff -0.11, extent 0.199,-6.201 0.603,-5.797
3D body: height 0.29, standoff -0.11, extent -0.601,-6.201 -0.197,-5.797
3D body: height 0.29, standoff -0.11, extent -1.401,-6.201 -0.997,-5.797
3D body: height 0.29, standoff -0.11, extent -2.201,-6.201 -1.797,-5.797
3D body: height 0.29, standoff -0.11, extent -3.001,-6.201 -2.597,-5.797
3D body: height 0.29, standoff -0.11, extent -3.801,-6.201 -3.397,-5.797
3D body: height 0.29, standoff -0.11, extent -4.601,-6.201 -4.197,-5.797
3D body: height 0.29, standoff -0.11, extent -5.401,-6.201 -4.997,-5.797
3D body: height 0.29, standoff -0.11, extent -6.201,-6.201 -5.797,-5.797
3D body: height 0.29, standoff -0.11, extent -7.001,-6.201 -6.597,-5.797
3D body: height 0.29, standoff -0.11, extent 6.599,-7.001 7.003,-6.597
3D body: height 0.29, standoff -0.11, extent 5.799,-7.001 6.203,-6.597
3D body: height 0.29, standoff -0.11, extent 4.999,-7.001 5.403,-6.597
3D body: height 0.29, standoff -0.11, extent 4.199,-7.001 4.603,-6.597
3D body: height 0.29, standoff -0.11, extent 3.399,-7.001 3.803,-6.597
3D body: height 0.29, standoff -0.11, extent 2.599,-7.001 3.003,-6.597
3D body: height 0.29, standoff -0.11, extent 1.799,-7.001 2.203,-6.597
3D body: height 0.29, standoff -0.11, extent 0.999,-7.001 1.403,-6.597
3D body: height 0.29, standoff -0.11, extent 0.199,-7.001 0.603,-6.597
3D body: height 0.29, standoff -0.11, extent -0.601,-7.001 -0.197,-6.597
3D body: height 0.29, standoff -0.11, extent -1.401,-7.001 -0.997,-6.597
3D body: height 0.29, standoff -0.11, extent -2.201,-7.001 -1.797,-6.597
3D body: height 0.29, standoff -0.11, extent -3.001,-7.001 -2.597,-6.597
3D body: height 0.29, standoff -0.11, extent -3.801,-7.001 -3.397,-6.597
3D body: height 0.29, standoff -0.11, extent -4.601,-7.001 -4.197,-6.597
3D body: height 0.29, standoff -0.11, extent -5.401,-7.001 -4.997,-6.597
3D body: height 0.29, standoff -0.11, extent -6.201,-7.001 -5.797,-6.597
3D body: height 0.29, standoff -0.11, extent -7.001,-7.001 -6.597,-6.597

## XEM-1C-204 [mil]
height 300
pads (204):
  rrect30% 17.5x92 smd paste-50 mask+2: 1(84.65,53) 3(108.27,53) 5(131.89,53) 7(155.51,53) 9(179.14,53) 11(202.76,53) 13(226.38,53) 15(250,53) 17(273.62,53) 19(297.25,53) 21(320.87,53) 23(344.49,53) 25(368.11,53) 27(391.73,53) 29(415.36,53) 31(438.98,53) 33(462.6,53) 35(486.22,53) 37(509.84,53) 39(533.47,53) 41(557.09,53) 43(580.71,53) 45(604.33,53) 47(627.95,53) 49(651.58,53) 51(675.2,53) 53(698.82,53) 55(722.44,53) 57(746.06,53) 59(769.69,53) 61(793.31,53) 63(816.93,53) 65(840.55,53) 67(864.17,53) 69(887.8,53) 71(911.42,53) 73(1029.53,53) 75(1053.15,53) 77(1076.77,53) 79(1100.39,53) 81(1124.02,53) 83(1147.64,53) 85(1171.26,53) 87(1194.88,53) 89(1218.5,53) 91(1242.13,53) 93(1265.75,53) 95(1289.37,53) 97(1312.99,53) 99(1336.61,53) 101(1360.24,53) 103(1383.86,53) 105(1407.48,53) 107(1431.1,53) 109(1454.72,53) 111(1478.35,53) 113(1501.97,53) 115(1525.59,53) 117(1549.21,53) 119(1572.83,53) 121(1596.46,53) 123(1620.08,53) 125(1643.7,53) 127(1667.32,53) 129(1690.94,53) 131(1714.57,53) 133(1738.19,53) 135(1761.81,53) 137(1785.43,53) 139(1809.05,53) 141(1832.68,53) 143(1856.3,53) 145(1879.92,53) 147(1903.54,53) 149(1927.16,53) 151(1950.79,53) 153(1974.41,53) 155(1998.03,53) 157(2021.65,53) 159(2045.27,53) 161(2068.9,53) 163(2092.52,53) 165(2116.14,53) 167(2139.76,53) 169(2163.38,53) 171(2187.01,53) 173(2210.63,53) 175(2234.25,53) 177(2257.87,53) 179(2281.49,53) 181(2305.12,53) 183(2328.74,53) 185(2352.36,53) 187(2375.98,53) 189(2399.6,53) 191(2423.23,53) 193(2446.85,53) 195(2470.47,53) 197(2494.09,53) 199(2517.71,53) 201(2541.34,53) 203(2564.96,53)
  rrect30% 17.5x92 smd far side paste-50 mask+2: 2(96.46,53) 4(120.08,53) 6(143.7,53) 8(167.33,53) 10(190.95,53) 12(214.57,53) 14(238.19,53) 16(261.81,53) 18(285.44,53) 20(309.06,53) 22(332.68,53) 24(356.3,53) 26(379.92,53) 28(403.55,53) 30(427.17,53) 32(450.79,53) 34(474.41,53) 36(498.03,53) 38(521.66,53) 40(545.28,53) 42(568.9,53) 44(592.52,53) 46(616.14,53) 48(639.77,53) 50(663.39,53) 52(687.01,53) 54(710.63,53) 56(734.25,53) 58(757.88,53) 60(781.5,53) 62(805.12,53) 64(828.74,53) 66(852.36,53) 68(875.99,53) 70(899.61,53) 72(923.23,53) 74(1041.34,53) 76(1064.96,53) 78(1088.58,53) 80(1112.21,53) 82(1135.83,53) 84(1159.45,53) 86(1183.07,53) 88(1206.69,53) 90(1230.32,53) 92(1253.94,53) 94(1277.56,53) 96(1301.18,53) 98(1324.8,53) 100(1348.43,53) 102(1372.05,53) 104(1395.67,53) 106(1419.29,53) 108(1442.91,53) 110(1466.54,53) 112(1490.16,53) 114(1513.78,53) 116(1537.4,53) 118(1561.02,53) 120(1584.65,53) 122(1608.27,53) 124(1631.89,53) 126(1655.51,53) 128(1679.13,53) 130(1702.76,53) 132(1726.38,53) 134(1750,53) 136(1773.62,53) 138(1797.24,53) 140(1820.87,53) 142(1844.49,53) 144(1868.11,53) 146(1891.73,53) 148(1915.35,53) 150(1938.98,53) 152(1962.6,53) 154(1986.22,53) 156(2009.84,53) 158(2033.46,53) 160(2057.09,53) 162(2080.71,53) 164(2104.33,53) 166(2127.95,53) 168(2151.57,53) 170(2175.2,53) 172(2198.82,53) 174(2222.44,53) 176(2246.06,53) 178(2269.68,53) 180(2293.31,53) 182(2316.93,53) 184(2340.55,53) 186(2364.17,53) 188(2387.79,53) 190(2411.42,53) 192(2435.04,53) 194(2458.66,53) 196(2482.28,53) 198(2505.9,53) 200(2529.53,53) 202(2553.15,53) 204(2576.77,53)
Mechanical 15:
  lines w1: 0,0 956.69,0 956.69,137.8 cw(c976.38,137.8) 996.06,137.8 996.06,0 2661.42,0